# Altium footprint library LDO_DCDC.PcbLib: 25 footprints (part 2 of 2)
Each footprint in its own frame and in the unit in brackets; x right, y up, seen from the top. Pads: shape width x height; smd on the part's side, far side on the other; paste and mask are expansions set on the pad; w line width, h text height; cw(c..) or ccw(c..) is an arc to the next point about the centre after c.
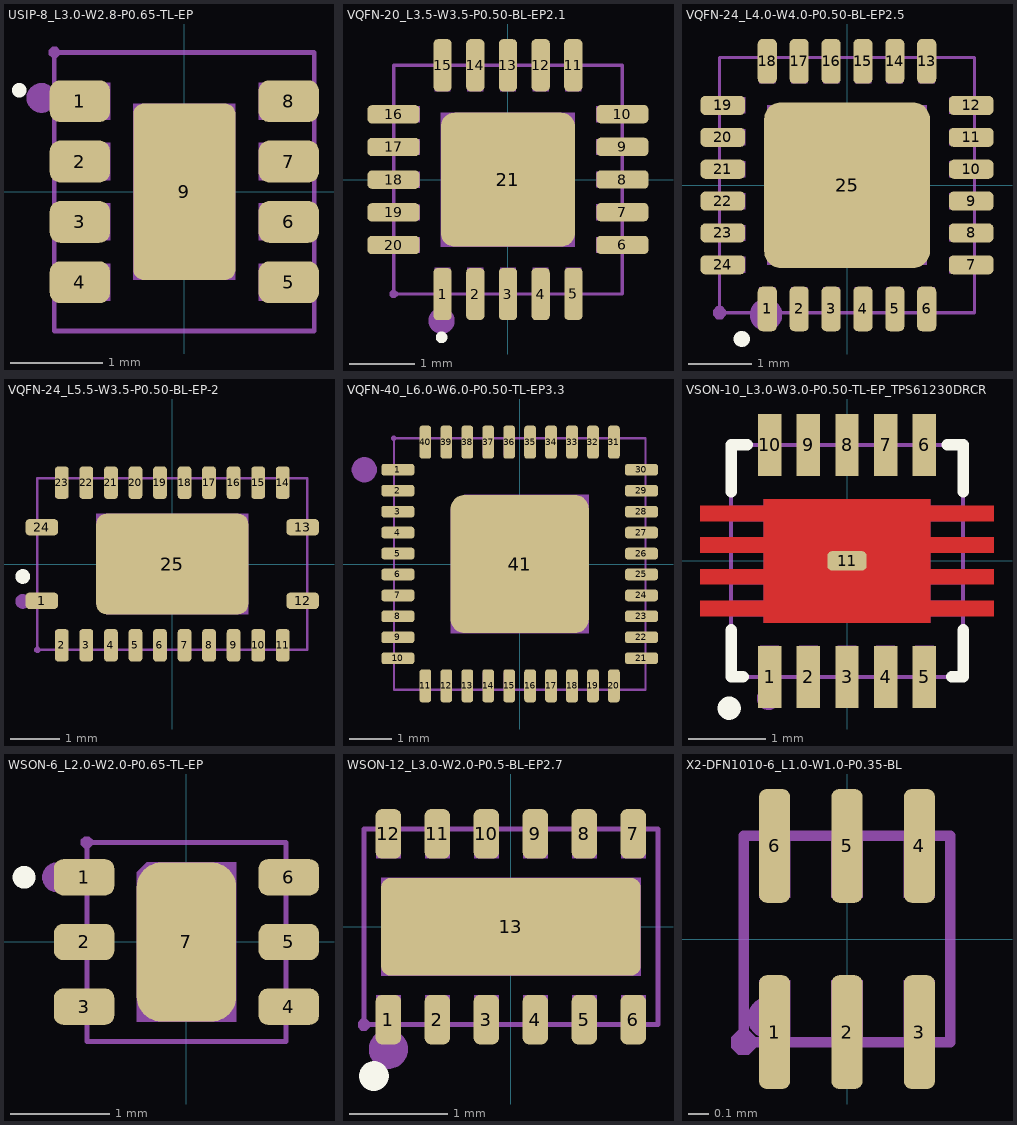
[diagram p1: the footprints below, top view; thin cyan lines are the x and y axes]

## USIP-8_L3.0-W2.8-P0.65-TL-EP [mm]
pads (9):
  rrect50% 0.65x0.45 smd: 1(-1.125,0.975) 2(-1.125,0.325) 3(-1.125,-0.325) 4(-1.125,-0.975) 5(1.125,-0.975) 6(1.125,-0.325) 7(1.125,0.325) 8(1.125,0.975)
  rrect20% 1.1x1.9 smd: 9(0,0)
Top Overlay:
  circle w0.15: c-1.778,1.092 r0.002
Mechanical 6:
  circle w0.16: c-1.54,1.01 r0.08
Mechanical 15:
  region: -1.3,1.175 -0.8,1.175 -0.8,0.775 -1.3,0.775
  region: -1.3,0.525 -0.8,0.525 -0.8,0.125 -1.3,0.125
  region: -1.3,-0.125 -0.8,-0.125 -0.8,-0.525 -1.3,-0.525
  region: -1.3,-0.775 -0.8,-0.775 -0.8,-1.175 -1.3,-1.175
  region: 0.8,0.525 1.3,0.525 1.3,0.125 0.8,0.125
  region: 0.8,1.175 1.3,1.175 1.3,0.775 0.8,0.775
  region: 0.8,-0.775 1.3,-0.775 1.3,-1.175 0.8,-1.175
  region: 0.8,-0.125 1.3,-0.125 1.3,-0.525 0.8,-0.525
  region: -0.55,-0.95 -0.55,0.95 0.55,0.95 0.55,-0.95
  region: -1.34,1.5 -1.34,1.524 -1.375,1.559 -1.424,1.559 -1.459,1.524 -1.46,1.5 -1.459,1.475 -1.424,1.441 -1.375,1.441 -1.34,1.476 -1.34,1.5
  lines w0.051: -1.4,-1.5 -1.4,1.5 1.4,1.5 1.4,-1.5 -1.4,-1.5
3D body "3D_PCB1_2024-08-05.step": height 1.52, standoff -0.03, extent -1.401,-1.501 1.4,1.499

## VQFN-20_L3.5-W3.5-P0.50-BL-EP2.1 [mm]
pads (21):
  rrect50% 0.28x0.8 smd paste-100 mask+0.05: 1(-1.001,-1.751) 2(-0.501,-1.751) 3(-0.001,-1.751) 4(0.499,-1.751) 5(1.001,-1.749) 11(0.999,1.749) 12(0.501,1.751) 13(-0.001,1.749) 14(-0.501,1.749) 15(-1.001,1.749)
  rrect50% 0.8x0.28 smd paste-100 mask+0.05: 6(1.751,-0.999) 7(1.751,-0.499) 8(1.751,0.001) 9(1.751,0.501) 10(1.751,1.001) 16(-1.751,0.999) 17(-1.751,0.499) 18(-1.751,-0.001) 19(-1.751,-0.501) 20(-1.751,-1.001)
  rrect20% 2.05x2.05 smd paste-100 mask+0.05: 21(-0.001,-0.001)
Top Overlay:
  circle w0.127: c-1.016,-2.413 r0.025
Top Paste:
  region: 0.639,2.149 0.359,2.149 0.359,1.349 0.639,1.349
  region: 0.139,2.149 -0.141,2.149 -0.141,1.349 0.139,1.349
  region: -0.361,2.149 -0.641,2.149 -0.641,1.349 -0.361,1.349
  region: -0.861,2.149 -1.141,2.149 -1.141,1.349 -0.861,1.349
  region: 1.139,2.149 0.859,2.149 0.859,1.349 1.139,1.349
  region: 0.639,-1.351 0.359,-1.351 0.359,-2.151 0.639,-2.151
  region: 0.139,-1.351 -0.141,-1.351 -0.141,-2.151 0.139,-2.151
  region: -0.361,-1.351 -0.641,-1.351 -0.641,-2.151 -0.361,-2.151
  region: -0.861,-1.351 -1.141,-1.351 -1.141,-2.151 -0.861,-2.151
  region: 1.139,-1.351 0.859,-1.351 0.859,-2.151 1.139,-2.151
  region: 2.151,-0.639 2.151,-0.359 1.351,-0.359 1.351,-0.639
  region: 2.151,-0.139 2.151,0.141 1.351,0.141 1.351,-0.139
  region: 2.151,0.361 2.151,0.641 1.351,0.641 1.351,0.361
  region: 2.151,0.861 2.151,1.141 1.351,1.141 1.351,0.861
  region: 2.151,-1.139 2.151,-0.859 1.351,-0.859 1.351,-1.139
  region: -1.351,-1.141 -1.351,-0.861 -2.151,-0.861 -2.151,-1.141
  region: -1.351,-0.641 -1.351,-0.361 -2.151,-0.361 -2.151,-0.641
  region: -1.351,-0.141 -1.351,0.139 -2.151,0.139 -2.151,-0.141
  region: -1.351,0.359 -1.351,0.639 -2.151,0.639 -2.151,0.359
  region: -1.351,0.859 -1.351,1.139 -2.151,1.139 -2.151,0.859
  region: -0.821,-0.821 -0.821,0.819 0.819,0.819 0.819,-0.821
Mechanical 2:
  circle w0.2: c-1.016,-2.159 r0.1
Mechanical 6:
  lines w0.051: -1.75,-1.75 1.75,-1.75 1.75,1.75 -1.75,1.75 -1.75,-1.75
Mechanical 8:
  region: -1.69,-1.75 -1.69,-1.775 -1.725,-1.81 -1.775,-1.81 -1.81,-1.775 -1.81,-1.75 -1.81,-1.725 -1.775,-1.69 -1.725,-1.69 -1.69,-1.725 -1.69,-1.75
Mechanical 9:
  region: -1.026,-1.026 -1.026,1.024 1.024,1.024 1.024,-1.026
  region: 1.35,-0.879 1.75,-0.879 1.75,-1.119 1.35,-1.119
  region: 1.35,-0.379 1.75,-0.379 1.75,-0.619 1.35,-0.619
  region: 1.35,0.121 1.75,0.121 1.75,-0.119 1.35,-0.119
  region: 1.35,0.621 1.75,0.621 1.75,0.381 1.35,0.381
  region: 1.35,1.121 1.75,1.121 1.75,0.881 1.35,0.881
  region: -1.75,1.119 -1.35,1.119 -1.35,0.879 -1.75,0.879
  region: -1.75,0.619 -1.35,0.619 -1.35,0.379 -1.75,0.379
  region: -1.75,0.119 -1.35,0.119 -1.35,-0.121 -1.75,-0.121
  region: -1.75,-0.381 -1.35,-0.381 -1.35,-0.621 -1.75,-0.621
  region: -1.75,-0.881 -1.35,-0.881 -1.35,-1.121 -1.75,-1.121
  region: -1.121,1.75 -0.881,1.75 -0.881,1.35 -1.121,1.35
  region: -0.621,1.75 -0.381,1.75 -0.381,1.35 -0.621,1.35
  region: -0.121,1.75 0.119,1.75 0.119,1.35 -0.121,1.35
  region: 0.381,1.75 0.621,1.75 0.621,1.35 0.381,1.35
  region: 0.879,1.75 1.119,1.75 1.119,1.35 0.879,1.35
  region: 0.881,-1.35 1.121,-1.35 1.121,-1.75 0.881,-1.75
  region: 0.379,-1.35 0.619,-1.35 0.619,-1.75 0.379,-1.75
  region: -0.121,-1.35 0.119,-1.35 0.119,-1.75 -0.121,-1.75
  region: -0.621,-1.35 -0.381,-1.35 -0.381,-1.75 -0.621,-1.75
  region: -1.121,-1.35 -0.881,-1.35 -0.881,-1.75 -1.121,-1.75

## VQFN-24_L4.0-W4.0-P0.50-BL-EP2.5 [mm]
pads (25):
  rrect50% 0.3x0.7 smd paste-100 mask+0.051: 1(-1.25,-1.942) 2(-0.75,-1.942) 3(-0.25,-1.942) 4(0.25,-1.942) 5(0.75,-1.942) 6(1.25,-1.942) 13(1.25,1.942) 14(0.75,1.942) 15(0.25,1.942) 16(-0.25,1.942) 17(-0.75,1.942) 18(-1.25,1.942)
  rrect50% 0.7x0.3 smd paste-100 mask+0.051: 7(1.948,-1.25) 8(1.948,-0.75) 9(1.948,-0.25) 10(1.948,0.25) 11(1.948,0.75) 12(1.948,1.25) 19(-1.948,1.25) 20(-1.948,0.75) 21(-1.948,0.25) 22(-1.948,-0.25) 23(-1.948,-0.75) 24(-1.948,-1.25)
  rrect20% 2.6x2.6 smd paste-100 mask+0.051: 25(0.001,-0.001)
Top Overlay:
  circle w0.254: c-1.651,-2.413 r0
Top Paste:
  region: -1.039,-1.041 -1.039,1.039 1.041,1.039 1.041,-1.041
  region: -2.298,-1.4 -2.298,-1.1 -1.598,-1.1 -1.598,-1.4
  region: -2.298,-0.9 -2.298,-0.6 -1.598,-0.6 -1.598,-0.9
  region: -2.298,-0.4 -2.298,-0.1 -1.598,-0.1 -1.598,-0.4
  region: -2.298,0.1 -2.298,0.4 -1.598,0.4 -1.598,0.1
  region: -2.298,0.6 -2.298,0.9 -1.598,0.9 -1.598,0.6
  region: -2.298,1.1 -2.298,1.4 -1.598,1.4 -1.598,1.1
  region: -1.4,2.292 -1.1,2.292 -1.1,1.592 -1.4,1.592
  region: -0.9,2.292 -0.6,2.292 -0.6,1.592 -0.9,1.592
  region: -0.4,2.292 -0.1,2.292 -0.1,1.592 -0.4,1.592
  region: 0.1,2.292 0.4,2.292 0.4,1.592 0.1,1.592
  region: 0.6,2.292 0.9,2.292 0.9,1.592 0.6,1.592
  region: 1.1,2.292 1.4,2.292 1.4,1.592 1.1,1.592
  region: 2.298,1.4 2.298,1.1 1.598,1.1 1.598,1.4
  region: 2.298,0.9 2.298,0.6 1.598,0.6 1.598,0.9
  region: 2.298,0.4 2.298,0.1 1.598,0.1 1.598,0.4
  region: 2.298,-0.1 2.298,-0.4 1.598,-0.4 1.598,-0.1
  region: 2.298,-0.6 2.298,-0.9 1.598,-0.9 1.598,-0.6
  region: 2.298,-1.1 2.298,-1.4 1.598,-1.4 1.598,-1.1
  region: 1.4,-2.292 1.1,-2.292 1.1,-1.592 1.4,-1.592
  region: 0.9,-2.292 0.6,-2.292 0.6,-1.592 0.9,-1.592
  region: 0.4,-2.292 0.1,-2.292 0.1,-1.592 0.4,-1.592
  region: -0.1,-2.292 -0.4,-2.292 -0.4,-1.592 -0.1,-1.592
  region: -0.6,-2.292 -0.9,-2.292 -0.9,-1.592 -0.6,-1.592
  region: -1.1,-2.292 -1.4,-2.292 -1.4,-1.592 -1.1,-1.592
Mechanical 6:
  circle w0.254: c-1.27,-2.032 r0.127
Mechanical 15:
  region: -1.9,-2 -1.9,-1.959 -1.959,-1.9 -2.041,-1.9 -2.1,-1.959 -2.1,-2 -2.1,-2.042 -2.041,-2.1 -1.959,-2.1 -1.9,-2.042 -1.9,-2
  region: -1.249,1.249 1.251,1.249 1.251,-1.251 -1.249,-1.251
  region: -1.375,-2 -1.375,-1.6 -1.125,-1.6 -1.125,-2
  region: -0.875,-2 -0.875,-1.6 -0.625,-1.6 -0.625,-2
  region: -0.375,-2 -0.375,-1.6 -0.125,-1.6 -0.125,-2
  region: 0.125,-2 0.125,-1.6 0.375,-1.6 0.375,-2
  region: 0.625,-2 0.625,-1.6 0.875,-1.6 0.875,-2
  region: 1.125,-2 1.125,-1.6 1.375,-1.6 1.375,-2
  region: 1.376,1.998 1.376,1.598 1.126,1.598 1.126,1.998
  region: 0.877,1.998 0.877,1.598 0.627,1.598 0.627,1.998
  region: 0.376,1.998 0.376,1.598 0.126,1.598 0.126,1.998
  region: -0.123,1.998 -0.123,1.598 -0.373,1.598 -0.373,1.998
  region: -0.624,1.998 -0.624,1.598 -0.874,1.598 -0.874,1.998
  region: -1.123,1.998 -1.123,1.598 -1.373,1.598 -1.373,1.998
  region: 2,-1.378 1.6,-1.378 1.6,-1.128 2,-1.128
  region: 2,-0.878 1.6,-0.878 1.6,-0.628 2,-0.628
  region: 2,-0.378 1.6,-0.378 1.6,-0.128 2,-0.128
  region: 2,0.122 1.6,0.122 1.6,0.372 2,0.372
  region: 2,0.622 1.6,0.622 1.6,0.872 2,0.872
  region: 2,1.122 1.6,1.122 1.6,1.372 2,1.372
  region: -1.997,1.375 -1.597,1.375 -1.597,1.125 -1.997,1.125
  region: -1.997,0.875 -1.597,0.875 -1.597,0.625 -1.997,0.625
  region: -1.997,0.375 -1.597,0.375 -1.597,0.125 -1.997,0.125
  region: -1.997,-0.125 -1.597,-0.125 -1.597,-0.375 -1.997,-0.375
  region: -1.997,-0.625 -1.597,-0.625 -1.597,-0.875 -1.997,-0.875
  region: -1.997,-1.125 -1.597,-1.125 -1.597,-1.375 -1.997,-1.375
  lines w0.051: -2,-2 2,-2 2,2 -2,2 -2,-2
3D body "QFN 24.STEP": height 0.9, standoff 0, extent -2.07,-2.07 2.07,2.07

## VQFN-24_L5.5-W3.5-P0.50-BL-EP-2 [mm]
pads (25):
  rrect50% 0.665x0.336 smd: 1(-2.657,-0.75) 12(2.657,-0.75) 13(2.657,0.75) 24(-2.657,0.75)
  rrect50% 0.28x0.665 smd: 2(-2.25,-1.657) 3(-1.75,-1.657) 4(-1.25,-1.657) 5(-0.75,-1.657) 6(-0.25,-1.657) 7(0.25,-1.657) 8(0.75,-1.657) 9(1.25,-1.657) 10(1.75,-1.657) 11(2.25,-1.657) 14(2.25,1.657) 15(1.75,1.657) 16(1.25,1.657) 17(0.75,1.657) 18(0.25,1.657) 19(-0.25,1.657) 20(-0.75,1.657) 21(-1.25,1.657) 22(-1.75,1.657) 23(-2.25,1.657)
  rrect20% 3.1x2.05 smd: 25(0,0)
Top Overlay:
  circle w0.15: c-3.048,-0.254 r0.075
Mechanical 2:
  circle w0.15: c-3.048,-0.762 r0.075
Mechanical 6:
  lines w0.051: -2.75,-1.75 2.75,-1.75 2.75,1.75 -2.75,1.75 -2.75,-1.75
Mechanical 8:
  region: -2.69,-1.75 -2.69,-1.775 -2.725,-1.81 -2.775,-1.81 -2.81,-1.775 -2.81,-1.75 -2.81,-1.725 -2.775,-1.69 -2.725,-1.69 -2.69,-1.725 -2.69,-1.75
Mechanical 9:
  region: -1.55,-0.82 -1.55,1.025 1.55,1.025 1.55,-1.025 -1.345,-1.025
  region: -2.35,-0.87 -2.35,-0.63 -2.75,-0.63 -2.75,-0.87
  region: -2.35,0.63 -2.35,0.87 -2.75,0.87 -2.75,0.63
  region: -2.37,1.75 -2.37,1.35 -2.13,1.35 -2.13,1.75
  region: -1.87,1.75 -1.87,1.35 -1.63,1.35 -1.63,1.75
  region: -1.37,1.75 -1.37,1.35 -1.13,1.35 -1.13,1.75
  region: -0.87,1.75 -0.87,1.35 -0.63,1.35 -0.63,1.75
  region: -0.37,1.75 -0.37,1.35 -0.13,1.35 -0.13,1.75
  region: 0.13,1.75 0.13,1.35 0.37,1.35 0.37,1.75
  region: 0.63,1.75 0.63,1.35 0.87,1.35 0.87,1.75
  region: 1.13,1.75 1.13,1.35 1.37,1.35 1.37,1.75
  region: 1.63,1.75 1.63,1.35 1.87,1.35 1.87,1.75
  region: 2.13,1.75 2.13,1.35 2.37,1.35 2.37,1.75
  region: 2.35,0.63 2.35,0.87 2.75,0.87 2.75,0.63
  region: 2.35,-0.87 2.35,-0.63 2.75,-0.63 2.75,-0.87
  region: 2.13,-1.75 2.13,-1.35 2.37,-1.35 2.37,-1.75
  region: 1.63,-1.75 1.63,-1.35 1.87,-1.35 1.87,-1.75
  region: 1.13,-1.75 1.13,-1.35 1.37,-1.35 1.37,-1.75
  region: 0.63,-1.75 0.63,-1.35 0.87,-1.35 0.87,-1.75
  region: 0.13,-1.75 0.13,-1.35 0.37,-1.35 0.37,-1.75
  region: -0.37,-1.75 -0.37,-1.35 -0.13,-1.35 -0.13,-1.75
  region: -0.87,-1.75 -0.87,-1.35 -0.63,-1.35 -0.63,-1.75
  region: -1.37,-1.75 -1.37,-1.35 -1.13,-1.35 -1.13,-1.75
  region: -1.87,-1.75 -1.87,-1.35 -1.63,-1.35 -1.63,-1.75
  region: -2.37,-1.75 -2.37,-1.35 -2.13,-1.35 -2.13,-1.75
3D body "User Library-VQFN-24-1.STEP": height 0.95, standoff -0.05, extent -2.76,-1.76 2.76,1.76

## VQFN-40_L6.0-W6.0-P0.50-TL-EP3.3 [mm]
pads (41):
  rrect50% 0.79x0.28 smd paste-100 mask+0.051: 1(-2.908,2.25) 2(-2.908,1.75) 3(-2.908,1.25) 4(-2.908,0.75) 5(-2.908,0.25) 6(-2.908,-0.25) 7(-2.908,-0.75) 8(-2.908,-1.25) 9(-2.908,-1.75) 10(-2.908,-2.25) 21(2.908,-2.25) 22(2.908,-1.75) 23(2.908,-1.25) 24(2.908,-0.75) 25(2.908,-0.25) 26(2.908,0.25) 27(2.908,0.75) 28(2.908,1.25) 29(2.908,1.75) 30(2.908,2.25)
  rrect50% 0.28x0.79 smd paste-100 mask+0.051: 11(-2.25,-2.908) 12(-1.75,-2.908) 13(-1.25,-2.908) 14(-0.75,-2.908) 15(-0.25,-2.908) 16(0.25,-2.908) 17(0.75,-2.908) 18(1.25,-2.908) 19(1.75,-2.908) 20(2.25,-2.908) 31(2.25,2.908) 32(1.75,2.908) 33(1.25,2.908) 34(0.75,2.908) 35(0.25,2.908) 36(-0.25,2.908) 37(-0.75,2.908) 38(-1.25,2.908) 39(-1.75,2.908) 40(-2.25,2.908)
  rrect20% 3.3x3.3 smd paste-100 mask+0.051: 41(0,0)
Top Paste:
  drawing of 41 lines, arcs and shapes, not listed
Mechanical 2:
  circle w0.3: c-3.708,2.25 r0.15
Mechanical 6:
  lines w0.051: -3,-3 -3,3 3,3 3,-3 -3,-3
Mechanical 8:
  region: -2.94,3 -2.94,2.975 -2.975,2.94 -3.025,2.94 -3.06,2.975 -3.06,3 -3.06,3.025 -3.025,3.06 -2.975,3.06 -2.94,3.025 -2.94,3
Mechanical 9:
  drawing of 41 lines, arcs and shapes, not listed
3D body "ALSRobot-QFN40 6X6.STEP": height 1.04, standoff -0.01, extent -3.075,-3.069 3.075,3.081

## VSON-10_L3.0-W3.0-P0.50-TL-EP_TPS61230DRCR [mm]
pads (11):
  rect 0.3x0.8 smd: 1(-1,-1.5) 2(-0.5,-1.5) 3(0,-1.5) 4(0.5,-1.5) 5(1,-1.5) 6(1,1.5) 7(0.5,1.5) 8(0,1.5) 9(-0.5,1.5) 10(-1,1.5)
  rrect50% 0.508x0.254 smd: 11(0,0)
Top Layer:
  region: -1.075,0.8 -1.075,0.715 -1.9,0.715 -1.9,0.515 -1.075,0.515 -1.075,0.305 -1.9,0.305 -1.9,0.105 -1.075,0.105 -1.075,-0.105 -1.9,-0.105 -1.9,-0.305 -1.075,-0.305 -1.075,-0.515 -1.9,-0.515 -1.9,-0.715 -1.075,-0.715 -1.075,-0.8 1.075,-0.8 1.075,-0.715 1.9,-0.715 1.9,-0.515 1.075,-0.515 1.075,-0.305 1.9,-0.305 1.9,-0.105 1.075,-0.105 1.075,0.105 1.9,0.105 1.9,0.305 1.075,0.305 1.075,0.515 1.9,0.515 1.9,0.715 1.075,0.715 1.075,0.8
Top Overlay:
  circle w0.15: c-1.524,-1.905 r0.075
  lines w0.15: -1.496,-0.894 -1.496,-1.498 -1.345,-1.498 ; -1.496,0.894 -1.496,1.502 -1.29,1.502 ; 1.298,1.502 1.504,1.502 1.504,0.894 ; 1.353,-1.498 1.504,-1.498 1.504,-0.894
Mechanical 6:
  circle w0.15: c-1.016,-1.778 r0.075
Mechanical 15:
  region: -1.075,0.8 -1.075,0.715 -1.5,0.715 -1.5,0.515 -1.075,0.515 -1.075,0.305 -1.5,0.305 -1.5,0.105 -1.075,0.105 -1.075,-0.105 -1.5,-0.105 -1.5,-0.305 -1.075,-0.305 -1.075,-0.515 -1.5,-0.515 -1.5,-0.715 -1.075,-0.715 -1.075,-0.8 1.075,-0.8 1.075,-0.715 1.5,-0.715 1.5,-0.515 1.075,-0.515 1.075,-0.305 1.5,-0.305 1.5,-0.105 1.075,-0.105 1.075,0.105 1.5,0.105 1.5,0.305 1.075,0.305 1.075,0.515 1.5,0.515 1.5,0.715 1.075,0.715 1.075,0.8
  region: -0.62,1.1 -0.62,1.5 -0.38,1.5 -0.38,1.1
  region: -1.12,1.1 -1.12,1.5 -0.88,1.5 -0.88,1.1
  region: 0.38,1.1 0.38,1.5 0.62,1.5 0.62,1.1
  region: 0.88,1.1 0.88,1.5 1.12,1.5 1.12,1.1
  region: 0.88,-1.5 0.88,-1.1 1.12,-1.1 1.12,-1.5
  region: 0.38,-1.5 0.38,-1.1 0.62,-1.1 0.62,-1.5
  region: -0.62,-1.5 -0.62,-1.1 -0.38,-1.1 -0.38,-1.5
  region: -1.12,-1.5 -1.12,-1.1 -0.88,-1.1 -0.88,-1.5
  region: -0.12,1.1 -0.12,1.5 0.12,1.5 0.12,1.1
  region: 0.12,-1.1 0.12,-1.5 -0.12,-1.5 -0.12,-1.1
  region: -1.44,-1.5 -1.44,-1.475 -1.475,-1.44 -1.525,-1.44 -1.56,-1.475 -1.56,-1.5 -1.56,-1.525 -1.525,-1.56 -1.475,-1.56 -1.44,-1.525 -1.44,-1.5
  lines w0.051: -1.5,-1.5 -1.5,1.5 1.5,1.5 1.5,-1.5 -1.5,-1.5

## WSON-6_L2.0-W2.0-P0.65-TL-EP [mm]
pads (7):
  rrect50% 0.607x0.364 smd: 1(-1.028,0.65) 2(-1.028,0) 3(-1.028,-0.65) 4(1.028,-0.65) 5(1.028,0) 6(1.028,0.65)
  rrect50% 1x1.6 smd: 7(0,0)
Top Overlay:
  circle w0.127: c-1.632,0.65 r0.051
Mechanical 6:
  circle w0.15: c-1.3,0.65 r0.075
Mechanical 15:
  region: -0.94,1 -0.94,1.025 -0.975,1.06 -1.025,1.06 -1.06,1.025 -1.06,1 -1.06,0.975 -1.025,0.94 -0.975,0.94 -0.94,0.975 -0.94,1
  region: -1,0.8 -0.75,0.8 -0.75,0.5 -1,0.5
  region: -1,0.15 -0.75,0.15 -0.75,-0.15 -1,-0.15
  region: -1,-0.5 -0.75,-0.5 -0.75,-0.8 -1,-0.8
  region: 1,-0.5 0.75,-0.5 0.75,-0.8 1,-0.8
  region: 1,0.15 0.75,0.15 0.75,-0.15 1,-0.15
  region: 1,0.8 0.75,0.8 0.75,0.5 1,0.5
  region: -0.4,0.8 0.5,0.8 0.5,-0.8 -0.5,-0.8 -0.5,0.7
  lines w0.051: -1,-1 1,-1 1,1 -1,1 -1,-1
3D body "User Library-wson6-drv.STEP": height 0.8, standoff 0, extent -1.01,-1 1.01,1

## WSON-12_L3.0-W2.0-P0.5-BL-EP2.7 [mm]
pads (13):
  rrect50% 0.26x0.505 smd paste+0.051: 1(-1.25,-0.948) 2(-0.75,-0.948) 3(-0.25,-0.948) 4(0.25,-0.948) 5(0.75,-0.948) 6(1.25,-0.948) 7(1.25,0.948) 8(0.75,0.948) 9(0.25,0.948) 10(-0.25,0.948) 11(-0.75,0.948) 12(-1.25,0.948)
  rrect20% 2.65x1 smd paste+0.051: 13(0,0)
Top Overlay:
  circle w0.2: c-1.397,-1.524 r0.051
Mechanical 2:
  circle w0.2: c-1.25,-1.25 r0.1
Mechanical 6:
  lines w0.051: -1.5,-1 -1.5,1 1.5,1 1.5,-1 -1.5,-1
Mechanical 8:
  region: -1.44,-1 -1.44,-1.025 -1.475,-1.06 -1.525,-1.06 -1.56,-1.025 -1.56,-1 -1.56,-0.975 -1.525,-0.94 -1.475,-0.94 -1.44,-0.975 -1.44,-1
Mechanical 9:
  region: -1.325,0.5 1.325,0.5 1.325,-0.5 -1.325,-0.5
  region: -1.375,-0.7 -1.125,-0.7 -1.125,-1 -1.375,-1
  region: -1.375,1 -1.125,1 -1.125,0.7 -1.375,0.7
  region: -0.875,-0.7 -0.625,-0.7 -0.625,-1 -0.875,-1
  region: -0.875,1 -0.625,1 -0.625,0.7 -0.875,0.7
  region: -0.375,-0.7 -0.125,-0.7 -0.125,-1 -0.375,-1
  region: -0.375,1 -0.125,1 -0.125,0.7 -0.375,0.7
  region: 0.125,-0.7 0.375,-0.7 0.375,-1 0.125,-1
  region: 0.125,1 0.375,1 0.375,0.7 0.125,0.7
  region: 0.625,-0.7 0.875,-0.7 0.875,-1 0.625,-1
  region: 0.625,1 0.875,1 0.875,0.7 0.625,0.7
  region: 1.125,-0.7 1.375,-0.7 1.375,-1 1.125,-1
  region: 1.125,1 1.375,1 1.375,0.7 1.125,0.7
3D body "WSON-12 v7.step": height 0.85, standoff 0, extent -1.5,-1.05 1.5,1.05

## X2-DFN1010-6_L1.0-W1.0-P0.35-BL [mm]
pads (6):
  rrect50% 0.15x0.55 smd: 1(-0.35,-0.45) 2(0,-0.45) 3(0.35,-0.45) 4(0.35,0.45) 5(0,0.45) 6(-0.35,0.45)
Mechanical 6:
  circle w0.1: c-0.381,-0.381 r0.05
Mechanical 15:
  region: -0.275,0.2 -0.425,0.2 -0.425,0.5 -0.275,0.5
  region: 0.075,0.2 -0.075,0.2 -0.075,0.5 0.075,0.5
  region: 0.425,0.2 0.275,0.2 0.275,0.5 0.425,0.5
  region: 0.425,-0.5 0.275,-0.5 0.275,-0.2 0.425,-0.2
  region: 0.075,-0.5 -0.075,-0.5 -0.075,-0.2 0.075,-0.2
  region: -0.275,-0.5 -0.425,-0.5 -0.425,-0.2 -0.275,-0.2
  region: -0.44,-0.5 -0.44,-0.475 -0.475,-0.44 -0.525,-0.44 -0.56,-0.475 -0.56,-0.5 -0.56,-0.525 -0.525,-0.56 -0.475,-0.56 -0.44,-0.525 -0.44,-0.5
  lines w0.051: -0.5,-0.5 0.5,-0.5 0.5,0.5 -0.5,0.5 -0.5,-0.5